# Altium integrated library MF-CONNECTORS.IntLib: 14 symbols
Pins are listed as number, name and electrical type; pins without a type are passive.

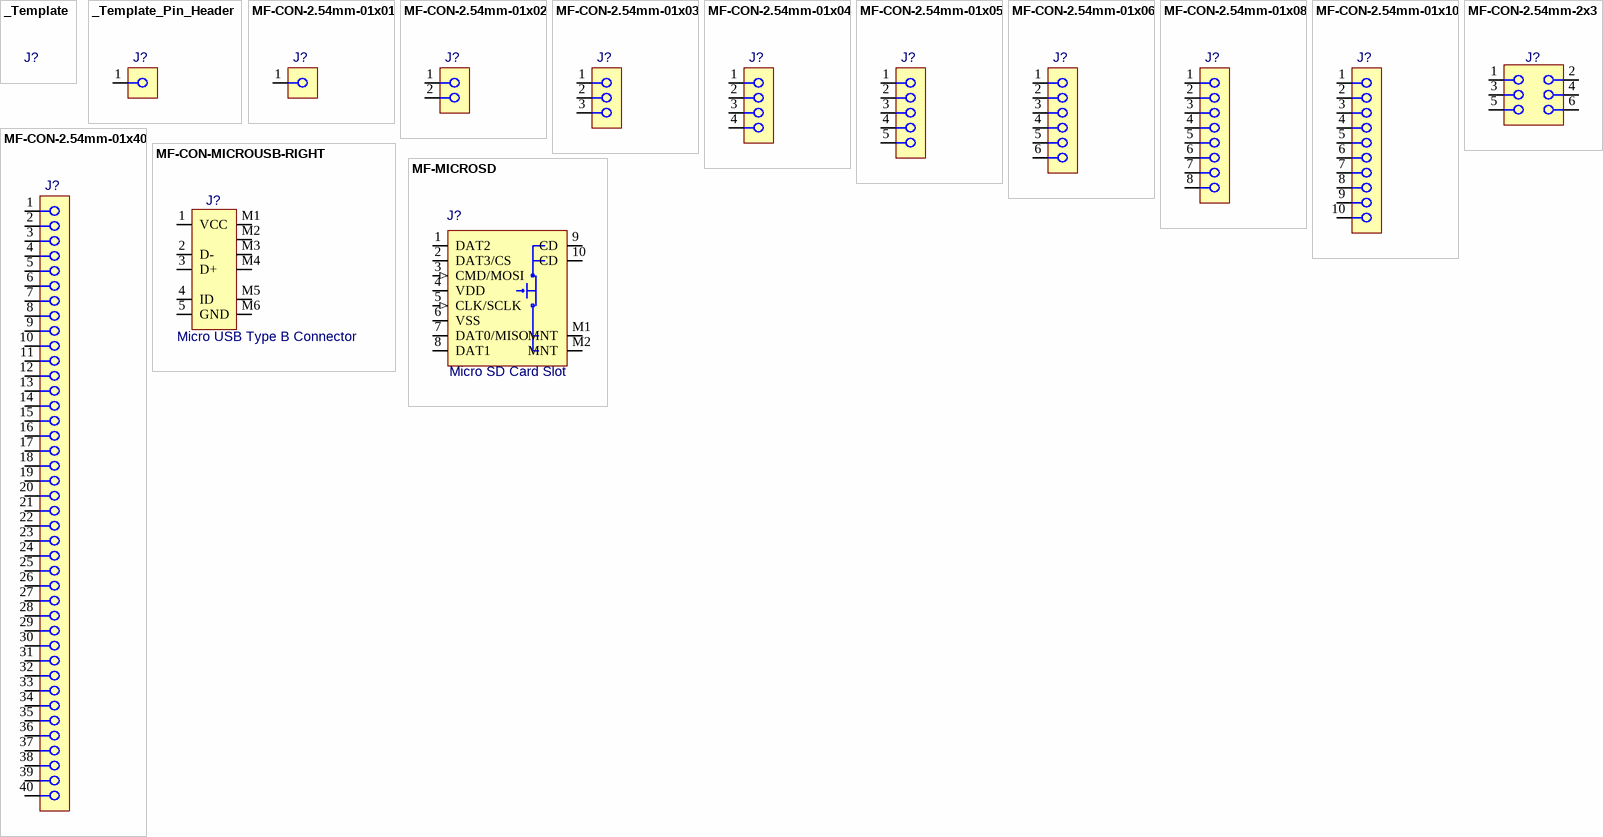
[diagram p0: symbols _Template to MF-MICROSD]

## _Template
designator J?  (value not drawn)
Contact: *; Operating Temperature Range: *; Number of Rows: *; Termination Post Length: *; RoHS: *; Voltage Rating: *; Number of Pins: *; Mating Post Length: *; ComponentLink1Description: Datasheet; ComponentLink1URL: *; ComponentLink2Description: Supplier Link 1; ComponentLink2URL: *; Supplier 1: Macrofab; Supplier Part Number 1: *; Manufacturer 1: *; Manufacturer Part Number 1: *; Insulation Resistance: *; Contact Resistance: *; Mount: *; Contacts per Row: *; Current Rating: *

## _Template_Pin_Header
designator J?  (value not drawn)
Manufacturer 1: 4UCON; Contact: Gold flash over nickle; Voltage Rating: 1.0 KV; Mating Post Length: 6.00mm; Insulation Resistance: 1000 MOhms; Contact Resistance: - 55C to + 105C; Contacts per Row: 1; Current Rating: 3A; Operating Temperature Range: - 55C to + 105C; Number of Rows: 1; Termination Post Length: 3.00mm; RoHS: Compliant; Number of Pins: *; ComponentLink1Description: Datasheet; ComponentLink1URL: *; ComponentLink2Description: Supplier Link 1; ComponentLink2URL: *; Supplier 1: Macrofab; Supplier Part Number 1: *; Manufacturer Part Number 1: *; Mount: THT
pins: 1

## MF-CON-2.54mm-01x01
designator J?  (value not drawn)
Pin Header 2.54mm 1x1 Unshrouded 1 Pins, 1 Row of 1, 01x01; Manufacturer 1: 4UCON; Manufacturer Part Number 1: 00834; Contact: Gold flash over nickle; Voltage Rating: 1.0 KV; Mating Post Length: 6.00mm; Insulation Resistance: 1000 MOhms; Contact Resistance: - 55C to + 105C; Contacts per Row: 1; Current Rating: 3A; Operating Temperature Range: - 55C to + 105C; Number of Rows: 1; Termination Post Length: 3.00mm; RoHS: Compliant; Number of Pins: 1; ComponentLink1Description: Datasheet; ComponentLink1URL: https://s3.amazonaws.com/mfprodpublic/datasheets/00834.pdf; ComponentLink2Description: Supplier Link 1; ComponentLink2URL: https://factory.macrofab.com/part/MF-CON-2.54mm-01x01; Supplier 1: Macrofab; Supplier Part Number 1: MF-CON-2.54mm-01x01; Mount: THT
footprint MF-CON-2.54mm-01x01
pins: 1

## MF-CON-2.54mm-01x02
designator J?  (value not drawn)
Pin Header 2.54mm 1x2 Unshrouded 2 Pins, 1 Row of 2, 01x02; Manufacturer 1: 4UCON; Manufacturer Part Number 1: 00834; Contact: Gold flash over nickle; Voltage Rating: 1.0 KV; Mating Post Length: 6.00mm; Insulation Resistance: 1000 MOhms; Contact Resistance: - 55C to + 105C; Contacts per Row: 1; Current Rating: 3A; Operating Temperature Range: - 55C to + 105C; Number of Rows: 1; Termination Post Length: 3.00mm; RoHS: Compliant; Number of Pins: 2; ComponentLink1Description: Datasheet; ComponentLink1URL: https://s3.amazonaws.com/mfprodpublic/datasheets/00834.pdf; ComponentLink2Description: Supplier Link 1; ComponentLink2URL: https://factory.macrofab.com/part/MF-CON-2.54mm-01x02; Supplier 1: Macrofab; Supplier Part Number 1: MF-CON-2.54mm-01x02; Mount: THT
footprint MF-CON-2.54mm-01x02 (2.54mm 1x2 Unshrouded 2 Pins, 1 Row of 2, 01x02)
pins: 1, 2

## MF-CON-2.54mm-01x03
designator J?  (value not drawn)
Pin Header 2.54mm 1x3 Unshrouded 3 Pins, 1 Row of 3, 01x03; Manufacturer 1: 4UCON; Manufacturer Part Number 1: 00834; Contact: Gold flash over nickle; Voltage Rating: 1.0 KV; Mating Post Length: 6.00mm; Insulation Resistance: 1000 MOhms; Contact Resistance: - 55C to + 105C; Contacts per Row: 1; Current Rating: 3A; Operating Temperature Range: - 55C to + 105C; Number of Rows: 1; Termination Post Length: 3.00mm; RoHS: Compliant; Number of Pins: 3; ComponentLink1Description: Datasheet; ComponentLink1URL: https://s3.amazonaws.com/mfprodpublic/datasheets/00834.pdf; ComponentLink2Description: Supplier Link 1; ComponentLink2URL: https://factory.macrofab.com/part/MF-CON-2.54mm-01x03; Supplier 1: Macrofab; Supplier Part Number 1: MF-CON-2.54mm-01x03; Mount: THT
footprint MF-CON-2.54mm-01x03 (2.54mm 1x3 Unshrouded 3 Pins, 1 Row of 3, 01x03)
pins: 1, 2, 3

## MF-CON-2.54mm-01x04
designator J?  (value not drawn)
Pin Header 2.54mm 1x4 Unshrouded 4 Pins, 1 Row of 4, 01x04; Manufacturer 1: 4UCON; Manufacturer Part Number 1: 00834; Contact: Gold flash over nickle; Voltage Rating: 1.0 KV; Mating Post Length: 6.00mm; Insulation Resistance: 1000 MOhms; Contact Resistance: - 55C to + 105C; Contacts per Row: 1; Current Rating: 3A; Operating Temperature Range: - 55C to + 105C; Number of Rows: 1; Termination Post Length: 3.00mm; RoHS: Compliant; Number of Pins: 4; ComponentLink1Description: Datasheet; ComponentLink1URL: https://s3.amazonaws.com/mfprodpublic/datasheets/00834.pdf; ComponentLink2Description: Supplier Link 1; ComponentLink2URL: https://factory.macrofab.com/part/MF-CON-2.54mm-01x04; Supplier 1: Macrofab; Supplier Part Number 1: MF-CON-2.54mm-01x04; Mount: THT
footprint MF-CON-2.54mm-01x04 (2.54mm 1x4 Unshrouded 4 Pins, 1 Row of 4, 01x04)
pins: 1, 2, 3, 4

## MF-CON-2.54mm-01x05
designator J?  (value not drawn)
Pin Header 2.54mm 1x5 Unshrouded 5 Pins, 1 Row of 5, 01x05; Manufacturer 1: 4UCON; Manufacturer Part Number 1: 00834; Contact: Gold flash over nickle; Voltage Rating: 1.0 KV; Mating Post Length: 6.00mm; Insulation Resistance: 1000 MOhms; Contact Resistance: - 55C to + 105C; Contacts per Row: 1; Current Rating: 3A; Operating Temperature Range: - 55C to + 105C; Number of Rows: 1; Termination Post Length: 3.00mm; RoHS: Compliant; Number of Pins: 5; ComponentLink1Description: Datasheet; ComponentLink1URL: https://s3.amazonaws.com/mfprodpublic/datasheets/00834.pdf; ComponentLink2Description: Supplier Link 1; ComponentLink2URL: https://factory.macrofab.com/part/MF-CON-2.54mm-01x05; Supplier 1: Macrofab; Supplier Part Number 1: MF-CON-2.54mm-01x05; Mount: THT
footprint MF-CON-2.54mm-01x05 (2.54mm 1x5 Unshrouded 5 Pins, 1 Row of 5, 01x05)
pins: 1, 2, 3, 4, 5

## MF-CON-2.54mm-01x06
designator J?  (value not drawn)
Pin Header 2.54mm 1x6 Unshrouded 6 Pins, 1 Row of 6, 01x06; Manufacturer 1: 4UCON; Manufacturer Part Number 1: 00834; Contact: Gold flash over nickle; Voltage Rating: 1.0 KV; Mating Post Length: 6.00mm; Insulation Resistance: 1000 MOhms; Contact Resistance: - 55C to + 105C; Contacts per Row: 1; Current Rating: 3A; Operating Temperature Range: - 55C to + 105C; Number of Rows: 1; Termination Post Length: 3.00mm; RoHS: Compliant; Number of Pins: 6; ComponentLink1Description: Datasheet; ComponentLink1URL: https://s3.amazonaws.com/mfprodpublic/datasheets/00834.pdf; ComponentLink2Description: Supplier Link 1; ComponentLink2URL: https://factory.macrofab.com/part/MF-CON-2.54mm-01x06; Supplier 1: Macrofab; Supplier Part Number 1: MF-CON-2.54mm-01x06; Mount: THT
footprint MF-CON-2.54mm-01x06 (2.54mm 1x6 Unshrouded 6 Pins, 1 Row of 6, 01x06)
pins: 1, 2, 3, 4, 5, 6

## MF-CON-2.54mm-01x08
designator J?  (value not drawn)
Pin Header 2.54mm 1x8 Unshrouded 8 Pins, 1 Row of 8, 01x08; Manufacturer 1: 4UCON; Manufacturer Part Number 1: 00834; Contact: Gold flash over nickle; Voltage Rating: 1.0 KV; Mating Post Length: 6.00mm; Insulation Resistance: 1000 MOhms; Contact Resistance: - 55C to + 105C; Contacts per Row: 1; Current Rating: 3A; Operating Temperature Range: - 55C to + 105C; Number of Rows: 1; Termination Post Length: 3.00mm; RoHS: Compliant; Number of Pins: 8; ComponentLink1Description: Datasheet; ComponentLink1URL: https://s3.amazonaws.com/mfprodpublic/datasheets/00834.pdf; ComponentLink2Description: Supplier Link 1; ComponentLink2URL: *; Supplier 1: Macrofab; Supplier Part Number 1: MF-CON-2.54mm-01x08; Mount: THT
footprint MF-CON-2.54mm-01x08 (2.54mm 1x8 Unshrouded 8 Pins, 1 Row of 8, 01x08)
pins: 1, 2, 3, 4, 5, 6, 7, 8

## MF-CON-2.54mm-01x10
designator J?  (value not drawn)
Pin Header 2.54mm 1x10 Unshrouded 10 Pins, 1 Row of 10, 01x10; Manufacturer 1: 4UCON; Manufacturer Part Number 1: 00834; Contact: Gold flash over nickle; Voltage Rating: 1.0 KV; Mating Post Length: 6.00mm; Insulation Resistance: 1000 MOhms; Contact Resistance: - 55C to + 105C; Contacts per Row: 1; Current Rating: 3A; Operating Temperature Range: - 55C to + 105C; Number of Rows: 1; Termination Post Length: 3.00mm; RoHS: Compliant; Number of Pins: 10; ComponentLink1Description: Datasheet; ComponentLink1URL: https://s3.amazonaws.com/mfprodpublic/datasheets/00834.pdf; ComponentLink2Description: Supplier Link 1; ComponentLink2URL: https://factory.macrofab.com/part/MF-CON-2.54mm-01x10; Supplier 1: Macrofab; Supplier Part Number 1: MF-CON-2.54mm-01x10; Mount: THT
footprint MF-CON-2.54mm-01x10 (2.54mm 1x10 Unshrouded 10 Pins, 1 Row of 10, 01x10)
pins: 1, 2, 3, 4, 5, 6, 7, 8, 9, 10

## MF-CON-2.54mm-01x40
designator J?  (value not drawn)
Pin Header 2.54mm 1x40 Unshrouded 40 Pins, 1 Row of 40, 01x40; Manufacturer 1: 4UCON; Manufacturer Part Number 1: 00834; Contact: Gold flash over nickle; Voltage Rating: 1.0 KV; Mating Post Length: 6.00mm; Insulation Resistance: 1000 MOhms; Contact Resistance: - 55C to + 105C; Contacts per Row: 1; Current Rating: 3A; Operating Temperature Range: - 55C to + 105C; Number of Rows: 1; Termination Post Length: 3.00mm; RoHS: Compliant; Number of Pins: 40; ComponentLink1Description: Datasheet; ComponentLink1URL: https://s3.amazonaws.com/mfprodpublic/datasheets/00834.pdf; ComponentLink2Description: Supplier Link 1; ComponentLink2URL: https://factory.macrofab.com/part/MF-CON-2.54mm-01x40; Supplier 1: Macrofab; Supplier Part Number 1: MF-CON-2.54mm-01x40; Mount: THT
footprint MF-CON-2.54mm-01x40 (2.54mm 1x40 Unshrouded 40 Pins, 1 Row of 40, 01x40)
pins: 1, 2, 3, 4, 5, 6, 7, 8, 9, 10, 11, 12, 13, 14, 15, 16, 17, 18, 19, 20, 21, 22, 23, 24, 25, 26, 27, 28, 29, 30, 31, 32, 33, 34, 35, 36, 37, 38, 39, 40

## MF-CON-2.54mm-2x3
designator J?  (value not drawn)
Header 2.54mm 2x3 Unshrouded 6 Pins, 2 Rows of 3, 02x03; Manufacturer 1: 4CON; Manufacturer Part Number 1: 00989; Voltage Rating: 1.0 KV; Mating Post Length: 6.00mm; Insulation Resistance: 1000 MOhms; Contact Resistance: 20 mOhm; Contacts per Row: 3; Current Rating: 3A; Operating Temperature Range: - 55C to + 105C; Number of Rows: 2; Termination Post Length: 3.00mm; RoHS: Compliant; Number of Pins: 6; ComponentLink1Description: Datasheet; ComponentLink1URL: https://factory.macrofab.com/part/MF-CON-2.54mm-2x3; ComponentLink2Description: Supplier Link 1; ComponentLink2URL: https://s3.amazonaws.com/mfprodpublic/datasheets/00989.pdf; Supplier 1: Macrofab; Supplier Part Number 1: MF-CON-2.54mm-2x3; Mount: THT
footprint MF-CON-2.54mm-2x3 (Header 2.54mm 2x3 Unshrouded 6 Pins, 2 Rows of 3, 02x03)
pins: 1, 2, 3, 4, 5, 6

## MF-CON-MICROUSB-RIGHT
designator J?  Type: Micro USB Type B Connector  (hidden comment: MF-CON-MICROUSB-RIGHT)
Micro USB Connector Type B Right Angle; Manufacturer 1: Amphenol FCI; Manufacturer Part Number 1: 10118193-0001LF; Current Rating: 1.8A; RoHS: Compliant; Number of Pins: 5; ComponentLink1Description: Datasheet; ComponentLink1URL: https://s3.amazonaws.com/devpublic1/datasheets/10118193AC-197151.pdf; ComponentLink2Description: Supplier Link 1; ComponentLink2URL: https://factory.macrofab.com/part/MF-CON-MICROUSB-RIGHT; Supplier 1: Macrofab; Supplier Part Number 1: MF-CON-MICROUSB-RIGHT; Orientation: Right Angle; Mount: SMT
footprint 10118193-0001LF (Micro USB Connector Type B Right Angle)
pins: 1 VCC (power), 2 D- (io), 3 D+ (io), 4 ID "USB OTG ID", 5 GND (power), M1 Mount, M2 Mount, M3 Mount, M4 Mount, M5 Mount, M6 Mount

## MF-MICROSD
designator J?  Type: Micro SD Card Slot  (hidden comment: MF-MICROSD)
Micro SD Card Slot PUSH PUSH Type Right Angle; Manufacturer 1: 4UCON; Manufacturer Part Number 1: 15882; Insertion Style: Push - Push; Current Rating: 0.5A; Orientation: Right Angle; RoHS: Compliant; Number of Pins: 8; ComponentLink1Description: Datasheet; ComponentLink1URL: https://s3.amazonaws.com/devpublic1/datasheets/15882.pdf; ComponentLink2Description: Supplier Link 1; ComponentLink2URL: https://factory.macrofab.com/part/MF-MICROSD; Supplier 1: Macrofab; Supplier Part Number 1: MF-MICROSD; Contact Resistance: *; Mount: SMT; Contacts per Row: *
footprint 4UCON-15882 (Micro SD Card Slot PUSH PUSH Type Right Angle)
pins: 1 DAT2 (io), 2 DAT3/CS (io), 3 CMD/MOSI (in), 4 VDD (power), 5 CLK/SCLK (in), 6 VSS (power), 7 DAT0/MISO (io), 8 DAT1 (io), 9 CD, 10 CD, M1 MNT, M2 MNT